# Altium schematic symbol library 555_Timer.SCHLIB: 7 symbols
Pins are listed as number, name and electrical type; pins without a type are passive.

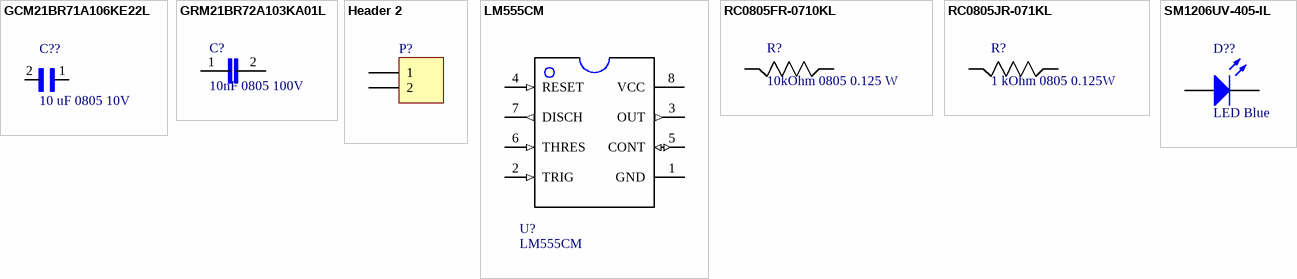
[diagram p0: symbols GCM21BR71A106KE22L to SM1206UV-405-IL]

## GCM21BR71A106KE22L
designator C??, comment 10 uF 0805 10V
0805 10 uF 10 V ±10 % Tolerance X7R Surface Mount Multilayer Ceramic Capacitor; MF: Murata; MP: GCM21BR71A106KE22L; Package: 0805 Murata; Price: None; Availability: Unavailable; Value: *
footprint C0805
pins: 1, 2

## GRM21BR72A103KA01L
designator C?, comment 10nF 0805 100V
0805 10 nF 100 V ±10% Tolerance X7R SMT Multilayer Ceramic Capacitor; MF: Murata; MP: GRM21BR72A103KA01L; Package: 0805 Murata; Price: None; Availability: Unavailable; Value: *
footprint C0805
pins: 1, 2

## Header 2
designator P?
Header, 2-Pin; LatestRevisionDate: 17-Jul-2002; LatestRevisionNote: Re-released for DXP Platform.; Publisher: Altium Limited
footprint HDR1X2 (Connector; Header; 2 Position)
pins: 1, 2

## LM555CM
designator U?
555 SOIC; MF: Texas Instruments; Package: SOIC-8 Texas Instruments; MP: LM555CM; Price: None; Availability: Unavailable; Value: *
footprint SO08
pins: 1 GND, 2 TRIG (in), 3 OUT (out), 4 RESET (in), 5 CONT (io), 6 THRES (in), 7 DISCH (out), 8 VCC (power)

## RC0805FR-0710KL
designator R?, comment 10kOhm 0805 0.125 W
RC Series 0805 0.125 W 10 kOhms 1% ±100 ppm/°C SMT Thick Film Chip Resistor; MF: Yageo; MP: RC0805FR-0710KL; Package: 0805 Yageo; Price: None; Availability: Unavailable; Value: *
footprint R0805
pins: 1, 2

## RC0805JR-071KL
designator R?, comment 1 kOhm 0805 0.125W
RC Series 0805 0.125 W 1 kOhms 1%  ±100 ppm/°C SMT Thick Film Chip Resistor; MF: Yageo; MP: RC0805FR-0710KL; Package: 0805 Yageo; Price: None; Availability: Unavailable; Value: *
footprint R0805
pins: 1, 2

## SM1206UV-405-IL
designator D??, comment LED Blue
SM1206 Series Blue 30° Water Clear 408 nm 3.4 V 1206 Surface Mount LED; Published: 8-Jun-2000; LatestRevisionDate: 17-Jul-2002; LatestRevisionNote: Re-released for DXP Platform.; PackageVersion: Feb-2002; PackageDescription: SM LED; 2 Flat Leads
footprint LED1206
pins: 1 A, 2 C